# Altium footprint library DIOM4325X244N.PcbLib: 1 footprints
Each footprint in its own frame and in the unit in brackets; x right, y up, seen from the top. Pads: shape width x height; smd on the part's side, far side on the other; paste and mask are expansions set on the pad; w line width, h text height; cw(c..) or ccw(c..) is an arc to the next point about the centre after c.
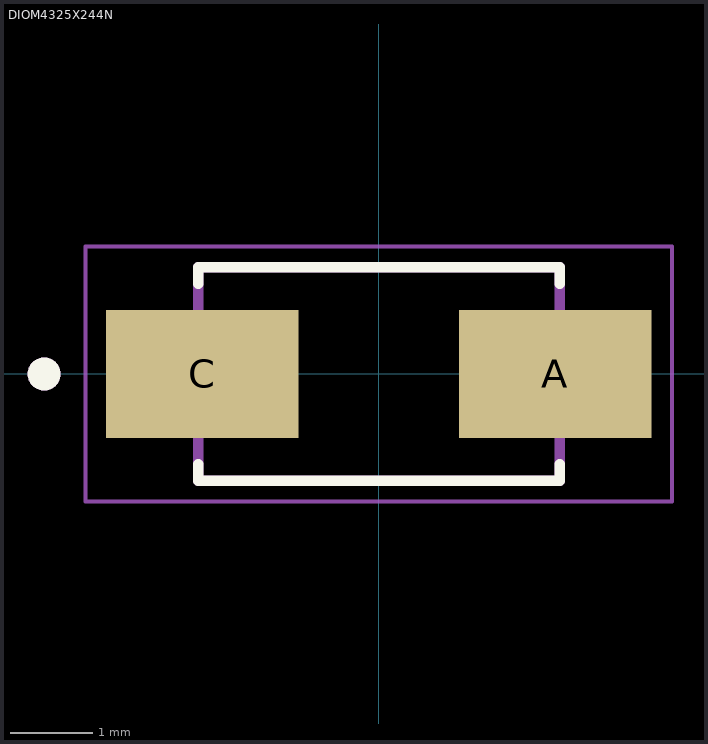
[diagram p0: the footprint, top view; thin cyan lines are the x and y axes]

## DIOM4325X244N [mm]
height 2.44
pads (2):
  rect 2.33x1.55 smd: A(2.135,0) C(-2.135,0)
Top Overlay:
  circle w0.2: c-4.05,0 r0.1
  lines w0.127: -2.187,-1.095 -2.187,-1.292 2.187,-1.292 2.187,-1.095 ; -2.187,1.095 -2.187,1.292 2.187,1.292 2.187,1.095
Mechanical 13:
  circle w0.2: c-4.05,0 r0.1
  lines w0.127: -2.187,-1.292 -2.187,1.292 2.187,1.292 2.187,-1.292 -2.187,-1.292
Mechanical 15:
  lines w0.05: -3.55,-1.542 -3.55,1.542 3.55,1.542 3.55,-1.542 -3.55,-1.542